# Altium integrated library SD101CWS7F.IntLib: 2 symbols
Pins are listed as number, name and electrical type; pins without a type are passive.

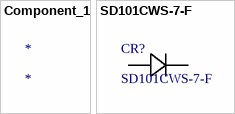
[diagram p0: symbols Component_1 to SD101CWS-7-F]

## Component_1
designator *

## SD101CWS-7-F
designator CR?
No Description Available; Vendor: Diodes Inc; Built_By: EMA_UL_Team; SourceLibrary: DiodesInc_2015-05-08; Type: DEV; Manufacturer_Part_Number: SD101CWS-7-F; Copyright: Copyright (C) 2021 Accelerated Designs. All rights reserved; RefDes: RefDes
footprint SOD323_DIO
pins: 1, 2